# EAGLE library part MCP23016 (library library)
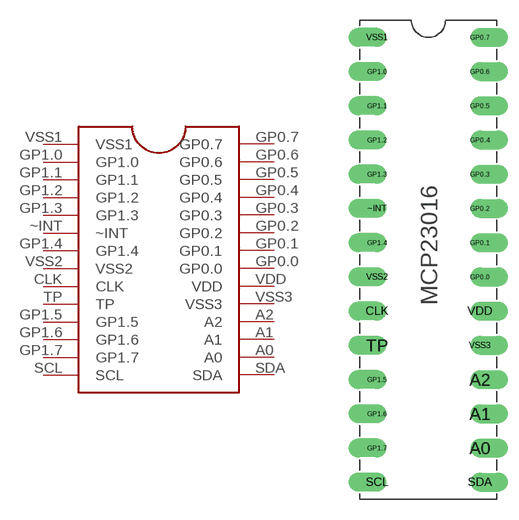
[diagram p5: symbol with the pads of MCP23016; footprint MCP23016]

Designator prefix -

## MCP23016  [MCP23016]
A0  A0
A1  A1
A2  A2
CLK  CLK
GP0.0  GP0.0
GP0.1  GP0.1
GP0.2  GP0.2
GP0.3  GP0.3
GP0.4  GP0.4
GP0.5  GP0.5
GP0.6  GP0.6
GP0.7  GP0.7
GP1.0  GP1.0
GP1.1  GP1.1
GP1.2  GP1.2
GP1.3  GP1.3
GP1.4  GP1.4
GP1.5  GP1.5
GP1.6  GP1.6
GP1.7  GP1.7
SCL  SCL
SDA  SDA
TP  TP
VDD  VDD
VSS1  VSS1
VSS2  VSS2
VSS3  VSS3
~INT  ~INT

## Footprint MCP23016 (pad centres in mm)
drill 0.889 pad 1.27 offset: A0 7.62,-30.48; A1 7.62,-27.94; A2 7.62,-25.4; CLK 0,-20.32; GP0.0 7.62,-17.78; GP0.1 7.62,-15.24; GP0.2 7.62,-12.7; GP0.3 7.62,-10.16; GP0.4 7.62,-7.62; GP0.5 7.62,-5.08; GP0.6 7.62,-2.54; GP0.7 7.62,0; GP1.0 0,-2.54; GP1.1 0,-5.08; GP1.2 0,-7.62; GP1.3 0,-10.16; GP1.4 0,-15.24; GP1.5 0,-25.4; GP1.6 0,-27.94; GP1.7 0,-30.48; SCL 0,-33.02; SDA 7.62,-33.02; TP 0,-22.86; VDD 7.62,-20.32; VSS1 0,0; VSS2 0,-17.78; VSS3 7.62,-22.86; ~INT 0,-12.7